# EAGLE library part LTC3124EFE#PBF (library LTC3124EFE#PBF)
Switching Voltage Regulators 15V, 5A 2-Phase Synchronous Step-Up DC/DC Converter with Output Disconnect Source: Datasheet <https://www.arrow.com/en/products/ltc3124efepbf/analog-devices>
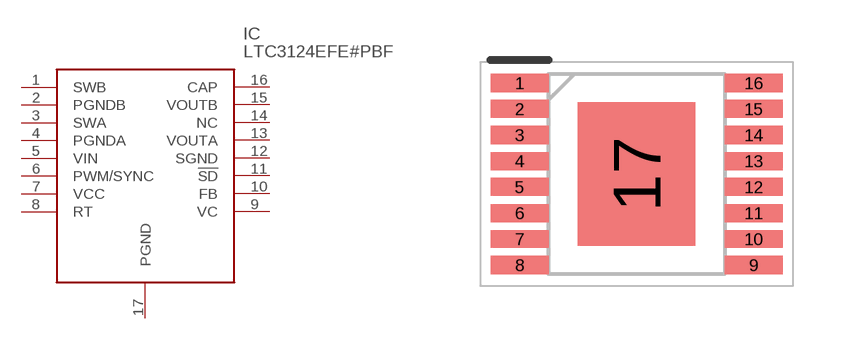
[diagram p0: symbol with the pads of SOP65P640X110-17N; footprint SOP65P640X110-17N]

Designator prefix IC

## LTC3124EFE#PBF (Description: Switching Voltage Regulators 15V, 5A 2-Phase Synchronous Step-Up DC/DC Converter with Output Disconnect; Height: 1.1mm; Manufacturer_Name: Analog Devices; Manufacturer_Part_Number: LTC3124EFE#PBF)  [SOP65P640X110-17N]
1  SWB
2  PGNDB
3  SWA
4  PGNDA
5  VIN
6  PWM/SYNC
7  VCC
8  RT
9  VC
10  FB
11  !SD
12  SGND
13  VOUTA
14  NC  nc
15  VOUTB
16  CAP
17  PGND

## Footprint SOP65P640X110-17N (pad centres in mm)
16-Lead Plastic TSSOP_2021
smd 1.45 x 0.45: 1 -2.925,2.275; 2 -2.925,1.625; 3 -2.925,0.975; 4 -2.925,0.325; 5 -2.925,-0.325; 6 -2.925,-0.975; 7 -2.925,-1.625; 8 -2.925,-2.275; 9 2.925,-2.275; 10 2.925,-1.625; 11 2.925,-0.975; 12 2.925,-0.325; 13 2.925,0.325; 14 2.925,0.975; 15 2.925,1.625; 16 2.925,2.275
smd 2.94 x 3.58: 17 0,0